# EAGLE library part DRV8833CPWPR (library SamacSys_Parts)
1A Low Voltage Stepper or Single/Dual Brushed DC Motor Driver (PWM Ctrl) Source: Datasheet <http://www.ti.com/lit/gpn/drv8833c>
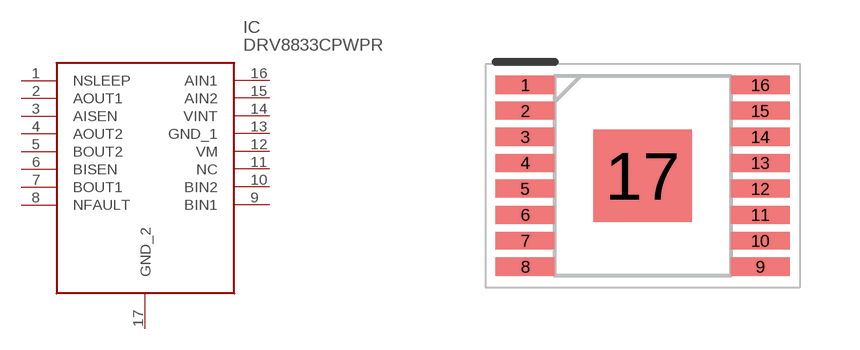
[diagram p0: symbol with the pads of SOP65P640X120-17N; footprint SOP65P640X120-17N]

Designator prefix IC

## DRV8833CPWPR (Description: 1A Low Voltage Stepper or Single/Dual Brushed DC Motor Driver (PWM Ctrl); Height: 1.2mm; Manufacturer_Name: Texas Instruments; Manufacturer_Part_Number: DRV8833CPWPR; Mouser_Part_Number: 595-DRV8833CPWPR; Mouser_Price-Stock: https://www.mouser.co.uk/ProductDetail/Texas-Instruments/DRV8833CPWPR?qs=asCBFxFfL1ROusTtfHMtHw%3D%3D)  [SOP65P640X120-17N]
1  NSLEEP
2  AOUT1
3  AISEN
4  AOUT2
5  BOUT2
6  BISEN
7  BOUT1
8  NFAULT
9  BIN1
10  BIN2
11  NC  nc
12  VM
13  GND_1
14  VINT
15  AIN2
16  AIN1
17  GND_2

## Footprint SOP65P640X120-17N (pad centres in mm)
DRV8833CPWPR
smd 1.475 x 0.45: 1 -2.938,2.275; 2 -2.938,1.625; 3 -2.938,0.975; 4 -2.938,0.325; 5 -2.938,-0.325; 6 -2.938,-0.975; 7 -2.938,-1.625; 8 -2.938,-2.275; 9 2.938,-2.275; 10 2.938,-1.625; 11 2.938,-0.975; 12 2.938,-0.325; 13 2.938,0.325; 14 2.938,0.975; 15 2.938,1.625; 16 2.938,2.275
smd 2.46 x 2.31: 17 0,0